# Altium footprint library TH_Passive.PcbLib: 23 footprints (part 1 of 2)
Each footprint in its own frame and in the unit in brackets; x right, y up, seen from the top. Pads: shape width x height; smd on the part's side, far side on the other; paste and mask are expansions set on the pad; w line width, h text height; cw(c..) or ccw(c..) is an arc to the next point about the centre after c.
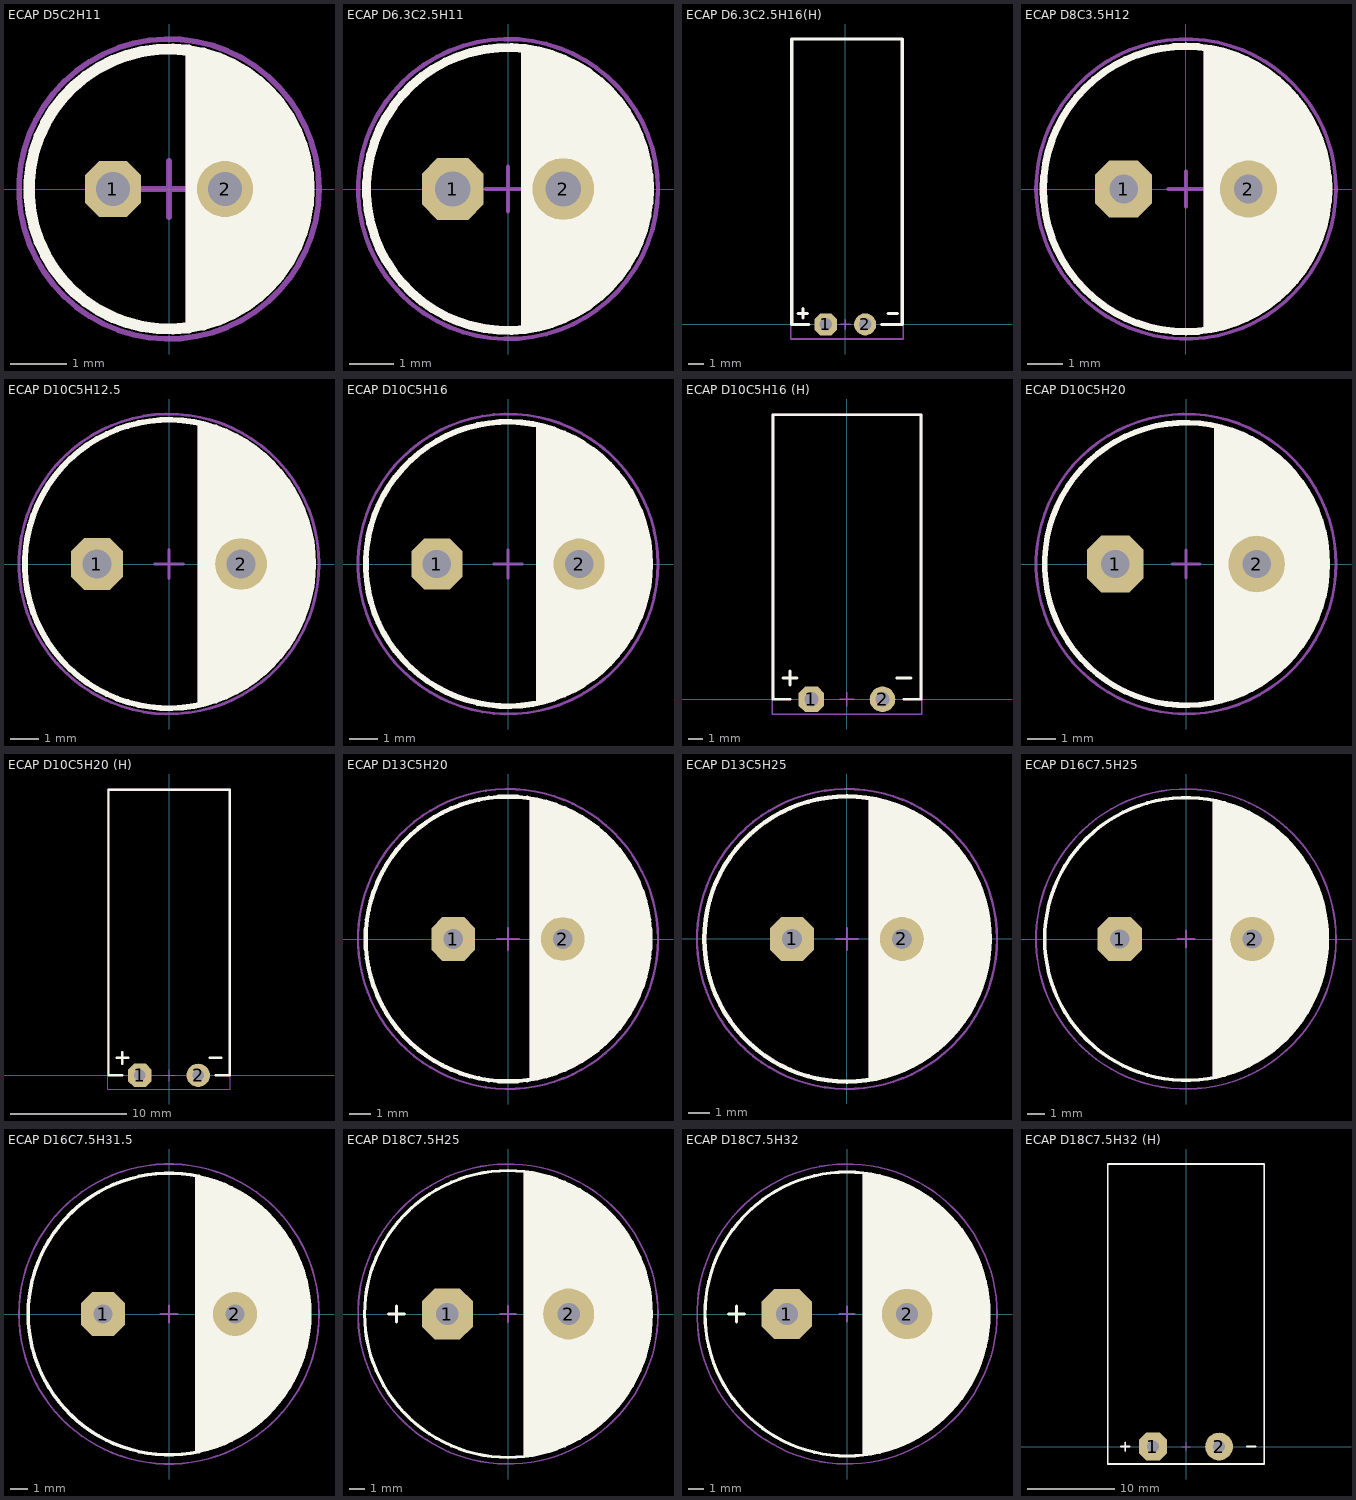
[diagram p0: the footprints below, top view; thin cyan lines are the x and y axes]

## ECAP D5C2H11 [mm]
height 11
pads (2):
  oct 1x1 hole 0.6: 1(-1,0)
  round 1 hole 0.6: 2(1,0)
Top Overlay:
  circle w0.2: c0,0 r2.5
  region: 0.3,-2.5 0.3,2.5 0.975,2.3 1.575,1.95 1.925,1.6 2.175,1.225 2.45,0.575 2.5,0 2.425,-0.625 2.2,-1.225 1.725,-1.8 1.2,-2.2 0.7,-2.425 0.325,-2.5
Top Assembly:
  circle w0.1: c0,0 r2.678
  region: 0.3,-2.5 0.3,2.5 0.975,2.3 1.575,1.95 1.925,1.6 2.175,1.225 2.45,0.575 2.5,0 2.425,-0.625 2.2,-1.225 1.725,-1.8 1.2,-2.2 0.7,-2.425 0.325,-2.5
  lines w0.1: -0.5,0 0.5,0 ; 0,-0.5 0,0.5
3D body "User Library-CapAluRadial_D50H110.STEP": height 13.5, standoff -3, extent -2.75,-2.75 2.75,2.75

## ECAP D6.3C2.5H11 [mm]
height 11
pads (2):
  oct 1.4x1.4 hole 0.8: 1(-1.25,0)
  round 1.4 hole 0.8: 2(1.25,0)
Top Overlay:
  circle w0.2: c0,0 r3.2
  region: 0.3,-3.2 0.3,3.2 1.025,3.05 1.825,2.65 2.45,2.075 2.825,1.5 3.1,0.75 3.2,0 3.125,-0.65 2.925,-1.325 2.5,-2 1.975,-2.525 1.325,-2.9 0.675,-3.125
Top Assembly:
  circle w0.1: c0,0 r3.392
  region: 0.3,-3.2 0.3,3.2 1.025,3.05 1.825,2.65 2.45,2.075 2.825,1.5 3.1,0.75 3.2,0 3.125,-0.65 2.925,-1.325 2.5,-2 1.975,-2.525 1.325,-2.9 0.675,-3.125
  lines w0.1: -0.5,0 0.5,0 ; 0,-0.5 0,0.5
3D body "User Library-CapAluRadial_D63H110.STEP": height 12.5, standoff -3, extent -3.4,-3.399 3.4,3.399

## ECAP D6.3C2.5H16(H) [mm]
height 16
pads (2):
  oct 1.4x1.4 hole 0.8: 1(-1.25,0)
  round 1.4 hole 0.8: 2(1.25,0)
Top Overlay:
  lines w0.2: -3,0.7 -2.4,0.7 ; -2.7,0.4 -2.7,1 ; -2.3,0 -3.4,0 -3.4,18.1 3.6,18.1 3.6,0 2.3,0 ; 2.7,0.7 3.3,0.7
Top Assembly:
  lines w0.1: -3,0.7 -2.4,0.7 ; -2.7,0.4 -2.7,1 ; -0.3,0 0.3,0 ; 0,-0.3 0,0.3 ; -3.462,-0.925 -3.462,18.1 3.661,18.1 3.661,-0.925 -3.462,-0.925
3D body "D63H150.STEP": height 6.8, standoff -1.6, extent -3.3,-0.334 3.5,18.1

## ECAP D8C3.5H12 [mm]
height 12
pads (2):
  oct 1.6x1.6 hole 0.8: 1(-1.75,0)
  round 1.6 hole 0.8: 2(1.75,0)
Top Overlay:
  circle w0.2: c0,0 r4
  region: 0.5,-4 0.5,4 1.3,3.8 2.05,3.45 2.625,3 3.125,2.5 3.575,1.775 3.85,1.1 4,0.325 3.975,-0.425 3.85,-1.125 3.55,-1.85 3.2,-2.4 2.7,-2.95 2.125,-3.375 1.225,-3.8
Top Assembly:
  circle w0.1: c0,0 r4.204
  region: 0.5,-4 0.5,4 1.3,3.8 2.05,3.45 2.625,3 3.125,2.5 3.575,1.775 3.85,1.1 4,0.325 3.975,-0.425 3.85,-1.125 3.55,-1.85 3.2,-2.4 2.7,-2.95 2.125,-3.375 1.225,-3.8
  lines w0.1: -0.5,0 0.5,0 ; 0,-0.5 0,0.5
3D body "User Library-CapAluRadial_D80H115.STEP": height 13, standoff -3, extent -4.25,-4.247 4.25,4.247

## ECAP D10C5H12.5 [mm]
height 12.5
pads (2):
  oct 1.8x1.8 hole 1: 1(-2.5,0)
  round 1.8 hole 1: 2(2.5,0)
Top Overlay:
  circle w0.2: c0,0 r5
  region: 1,-4.9 1,4.9 2,4.6 3,4 3.7,3.4 4.529,2.157 4.752,1.667 5,0.3 4.853,-1.313 4.691,-1.882 4.2,-2.7 3.8,-3.2 3.4,-3.7 3,-4 2.4,-4.4 1.7,-4.7 1.1,-4.9
Top Assembly:
  circle w0.1: c0,0 r5.202
  region: 1,-4.9 1,4.9 2,4.6 3,4 3.7,3.4 4.529,2.157 4.752,1.667 5,0.3 4.853,-1.313 4.691,-1.882 4.2,-2.7 3.8,-3.2 3.4,-3.7 3,-4 2.4,-4.4 1.7,-4.7 1.1,-4.9
  lines w0.1: -0.5,0 0.5,0 ; 0,-0.5 0,0.5
3D body "User Library-CapAluRadial_D100H125.STEP": height 14.05, standoff -2.95, extent -5.25,-5.249 5.25,5.249

## ECAP D10C5H16 [mm]
height 16
pads (2):
  oct 1.8x1.8 hole 1: 1(-2.5,0)
  round 1.8 hole 1: 2(2.5,0)
Top Overlay:
  circle w0.2: c0,0 r5
  region: 1,-4.9 1,4.9 1.6,4.75 2.175,4.5 2.8,4.15 3.25,3.8 3.875,3.175 4.275,2.6 4.775,1.575 4.975,0.65 5,-0.45 4.875,-1.175 4.675,-1.825 4.275,-2.625 3.775,-3.275 3.075,-3.95 2.35,-4.4 1.275,-4.85 1.025,-4.9
Top Assembly:
  circle w0.1: c0,0 r5.274
  region: 1,-4.9 1,4.9 1.6,4.75 2.175,4.5 2.8,4.15 3.25,3.8 3.875,3.175 4.275,2.6 4.775,1.575 4.975,0.65 5,-0.45 4.875,-1.175 4.675,-1.825 4.275,-2.625 3.775,-3.275 3.075,-3.95 2.35,-4.4 1.275,-4.85 1.025,-4.9
  lines w0.1: -0.5,0 0.5,0 ; 0,-0.5 0,0.5
3D body "User Library-CapAluRadial_D100H160.STEP": height 17.55, standoff -2.95, extent -5.25,-5.249 5.25,5.249

## ECAP D10C5H16 (H) [mm]
height 16
pads (2):
  oct 1.8x1.8 hole 1: 1(-2.5,0)
  round 1.8 hole 1: 2(2.5,0)
Top Overlay:
  lines w0.2: -4.5,1.5 -3.5,1.5 ; -4,0 -5.2,0 -5.2,20 5.2,20 5.2,0 4,0 ; -4,1 -4,2 ; 3.5,1.5 4.5,1.5
Top Assembly:
  lines w0.1: -4.304,1.499 -3.704,1.499 ; -4.004,1.199 -4.004,1.799 ; -0.5,0 0.5,0 ; 0,-0.5 0,0.5 ; -5.238,-1.032 -5.238,20.055 5.246,20.055 5.246,-1.032 -5.238,-1.032
3D body "User Library-CapAluRadial_D100H160.STEP": height 10.55, standoff 0.05, extent -5.25,-0.5 5.25,20

## ECAP D10C5H20 [mm]
height 20
pads (2):
  oct 2x2 hole 1: 1(-2.5,0)
  round 2 hole 1: 2(2.5,0)
Top Overlay:
  circle w0.2: c0,0 r5
  region: 1,-4.89 1,4.887 1.775,4.7 2.425,4.4 3,4 3.55,3.525 4.1,2.875 4.55,2.125 4.725,1.625 4.925,0.975 4.975,0.5 5,0 4.975,-0.5 4.825,-1.375 4.475,-2.25 4.2,-2.725 3.675,-3.425 3.2,-3.85 2.55,-4.275 1.875,-4.625 1.4,-4.8
Top Assembly:
  circle w0.1: c0,0 r5.308
  region: 1,-4.89 1,4.887 1.775,4.7 2.425,4.4 3,4 3.55,3.525 4.1,2.875 4.55,2.125 4.725,1.625 4.925,0.975 4.975,0.5 5,0 4.975,-0.5 4.825,-1.375 4.475,-2.25 4.2,-2.725 3.675,-3.425 3.2,-3.85 2.55,-4.275 1.875,-4.625 1.4,-4.8
  lines w0.1: -0.5,0 0.5,0 ; 0,-0.5 0,0.5
3D body "User Library-CapAluRadial_D100H200.STEP": height 22, standoff -3, extent -5.25,-5.249 5.25,5.249

## ECAP D10C5H20 (H) [mm]
height 20
pads (2):
  oct 2x2 hole 1: 1(-2.5,0)
  round 2 hole 1: 2(2.5,0)
Top Overlay:
  lines w0.2: -4.5,1.5 -3.5,1.5 ; -4,0 -5.2,0 -5.2,24.5 5.2,24.5 5.2,0 4,0 ; -4,1 -4,2 ; 3.5,1.5 4.5,1.5
Top Assembly:
  lines w0.1: -4.326,1.5 -3.726,1.5 ; -4.026,1.2 -4.026,1.8 ; -0.5,0 0.5,0 ; 0,-0.5 0,0.5 ; -5.253,-1.17 5.244,-1.17 5.244,24.558 -5.253,24.558 -5.253,-1.17
3D body "User Library-CapAluRadial_D100H200.STEP": height 10.75, standoff 0.25, extent -5.25,-0.5 5.25,24.5

## ECAP D13C5H20 [mm]
height 20
pads (2):
  oct 2x2 hole 0.9: 1(-2.5,0)
  round 2 hole 0.9: 2(2.5,0)
Top Overlay:
  circle w0.2: c0,0 r6.5
  region: 1,-6.4 1,6.4 1.8,6.275 2.55,5.975 3.45,5.525 4.275,4.9 4.925,4.25 5.675,3.2 6.075,2.3 6.35,1.475 6.5,0.25 6.425,-0.975 6.1,-2.3 5.75,-3.075 5.3,-3.75 4.9,-4.25 4.425,-4.75 3.9,-5.175 3.275,-5.6 2.675,-5.9 1.975,-6.2 1.4,-6.325
Top Assembly:
  circle w0.1: c0,0 r6.847
  region: 1,-6.4 1,6.4 1.8,6.275 2.55,5.975 3.45,5.525 4.275,4.9 4.925,4.25 5.675,3.2 6.075,2.3 6.35,1.475 6.5,0.25 6.425,-0.975 6.1,-2.3 5.75,-3.075 5.3,-3.75 4.9,-4.25 4.425,-4.75 3.9,-5.175 3.275,-5.6 2.675,-5.9 1.975,-6.2 1.4,-6.325
  lines w0.1: -0.5,0 0.5,0 ; 0,-0.5 0,0.5
3D body "User Library-Cap-EL(13x25-5).STEP": height 25, standoff -3.3, extent -6.5,-6.499 6.502,6.499

## ECAP D13C5H25 [mm]
height 25
pads (2):
  oct 2x2 hole 0.9: 1(-2.5,0)
  round 2 hole 0.9: 2(2.5,0)
Top Overlay:
  circle w0.2: c0,0 r6.5
  region: 1,-6.4 1,6.4 2.15,6.15 3.3,5.625 4.3,4.9 5.05,4.125 5.85,2.85 6.175,2.025 6.525,0.525 6.375,-1.325 5.95,-2.65 5.375,-3.625 4.625,-4.575 3.875,-5.2 3.175,-5.65 2.425,-6.025 1.5,-6.325 1.025,-6.4
Top Assembly:
  circle w0.1: c0,0 r6.831
  region: 1,-6.4 1,6.4 2.15,6.15 3.3,5.625 4.3,4.9 5.05,4.125 5.85,2.85 6.175,2.025 6.525,0.525 6.375,-1.325 5.95,-2.65 5.375,-3.625 4.625,-4.575 3.875,-5.2 3.175,-5.65 2.425,-6.025 1.5,-6.325 1.025,-6.4
  lines w0.1: -0.5,0 0.5,0 ; 0,-0.5 0,0.5
3D body "User Library-Cap-EL(13x25-5).STEP": height 25, standoff -3.3, extent -6.5,-6.499 6.502,6.499

## ECAP D16C7.5H25 [mm]
height 25
pads (2):
  oct 2.5x2.5 hole 1.1: 1(-3.75,0)
  round 2.5 hole 1.1: 2(3.75,0)
Top Overlay:
  circle w0.2: c0,0 r8
  region: 1.5,7.85 2.1,7.75 2.85,7.5 4.175,6.825 5.375,5.95 6.2,5.05 7.075,3.8 7.525,2.75 7.875,1.425 8,0 7.875,-1.375 7.725,-2.25 7.075,-3.75 6.65,-4.45 6.025,-5.25 5.475,-5.85 4.7,-6.475 3.975,-6.95 3.175,-7.35 2.3,-7.675 1.5,-7.85
Top Assembly:
  circle w0.1: c0,0 r8.488
  region: 1.5,7.85 2.1,7.75 2.85,7.5 4.175,6.825 5.375,5.95 6.2,5.05 7.075,3.8 7.525,2.75 7.875,1.425 8,0 7.875,-1.375 7.725,-2.25 7.075,-3.75 6.65,-4.45 6.025,-5.25 5.475,-5.85 4.7,-6.475 3.975,-6.95 3.175,-7.35 2.3,-7.675 1.5,-7.85
  lines w0.1: -0.5,0 0.5,0 ; 0,-0.5 0,0.5
3D body "User Library-CapAluRadial_D160H250.STEP": height 27, standoff -3, extent -8.25,-8.249 8.25,8.249

## ECAP D16C7.5H31.5 [mm]
height 31.5
pads (2):
  oct 2.5x2.5 hole 1.1: 1(-3.75,0)
  round 2.5 hole 1.1: 2(3.75,0)
Top Overlay:
  circle w0.2: c0,0 r8
  region: 1.5,7.85 2.1,7.75 2.85,7.5 4.175,6.825 5.375,5.95 6.2,5.05 7.075,3.8 7.525,2.75 7.875,1.425 8,0 7.875,-1.375 7.725,-2.25 7.075,-3.75 6.65,-4.45 6.025,-5.25 5.475,-5.85 4.7,-6.475 3.975,-6.95 3.175,-7.35 2.3,-7.675 1.5,-7.85
Top Assembly:
  circle w0.1: c0,0 r8.523
  region: 1.5,7.85 2.1,7.75 2.85,7.5 4.175,6.825 5.375,5.95 6.2,5.05 7.075,3.8 7.525,2.75 7.875,1.425 8,0 7.875,-1.375 7.725,-2.25 7.075,-3.75 6.65,-4.45 6.025,-5.25 5.475,-5.85 4.7,-6.475 3.975,-6.95 3.175,-7.35 2.3,-7.675 1.5,-7.85
  lines w0.1: -0.5,0 0.5,0 ; 0,-0.5 0,0.5
3D body "User Library-CapAluRadial_D160H315.STEP": height 33.5, standoff -3, extent -8.25,-8.25 8.25,8.249

## ECAP D18C7.5H25 [mm]
height 40
pads (2):
  oct 3.2x3.2 hole 1.4: 1(-3.81,0)
  round 3.2 hole 1.4: 2(3.81,0)
Top Overlay:
  circle w0.2: c0,0 r9
  region: 1,8.9 1.3,8.9 2.125,8.75 3.575,8.3 4.625,7.725 5.975,6.725 6.675,6.05 7.3,5.25 7.9,4.35 8.425,3.2 8.875,1.575 9,0.475 8.95,-0.85 8.8,-1.9 8.45,-3.15 7.975,-4.175 7.375,-5.125 6.65,-6.05 5.775,-6.9 5,-7.525 3.725,-8.175 2.35,-8.7 1.25,-8.925 1,-8.925
  lines w0.2: -7.5,0 -6.5,0 ; -7,-0.5 -7,0.5
Top Assembly:
  circle w0.1: c0,0 r9.415
  region: 1,8.9 1.3,8.9 2.125,8.75 3.575,8.3 4.625,7.725 5.975,6.725 6.675,6.05 7.3,5.25 7.9,4.35 8.425,3.2 8.875,1.575 9,0.475 8.95,-0.85 8.8,-1.9 8.45,-3.15 7.975,-4.175 7.375,-5.125 6.65,-6.05 5.775,-6.9 5,-7.525 3.725,-8.175 2.35,-8.7 1.25,-8.925 1,-8.925
  lines w0.1: -7.5,0 -6.5,0 ; -7,-0.5 -7,0.5 ; -0.5,0 0.5,0 ; 0,-0.5 0,0.5
3D body "User Library-CapAluRadial_D180H250P75.STEP": height 25.1, standoff -2.9, extent -9,-8.999 9.001,8.999

## ECAP D18C7.5H32 [mm]
height 40
pads (2):
  oct 3.2x3.2 hole 1.4: 1(-3.81,0)
  round 3.2 hole 1.4: 2(3.81,0)
Top Overlay:
  circle w0.2: c0,0 r9
  region: 1,8.9 1.3,8.9 2.125,8.75 3.575,8.3 4.625,7.725 5.975,6.725 6.675,6.05 7.3,5.25 7.9,4.35 8.425,3.2 8.875,1.575 9,0.475 8.95,-0.85 8.8,-1.9 8.45,-3.15 7.975,-4.175 7.375,-5.125 6.65,-6.05 5.775,-6.9 5,-7.525 3.725,-8.175 2.35,-8.7 1.25,-8.925 1,-8.925
  lines w0.2: -7.5,0 -6.5,0 ; -7,-0.5 -7,0.5
Top Assembly:
  circle w0.1: c0,0 r9.506
  region: 1,8.9 1.3,8.9 2.125,8.75 3.575,8.3 4.625,7.725 5.975,6.725 6.675,6.05 7.3,5.25 7.9,4.35 8.425,3.2 8.875,1.575 9,0.475 8.95,-0.85 8.8,-1.9 8.45,-3.15 7.975,-4.175 7.375,-5.125 6.65,-6.05 5.775,-6.9 5,-7.525 3.725,-8.175 2.35,-8.7 1.25,-8.925 1,-8.925
  lines w0.1: -7.5,0 -6.5,0 ; -7,-0.5 -7,0.5 ; -0.5,0 0.5,0 ; 0,-0.5 0,0.5
3D body "User Library-CapAluRadial_D180H315P75.STEP": height 31.5, standoff -3, extent -9,-9 9.001,9

## ECAP D18C7.5H32 (H) [mm]
height 40
pads (2):
  oct 3.2x3.2 hole 1.4: 1(-3.81,0)
  round 3.2 hole 1.4: 2(3.81,0)
Top Overlay:
  lines w0.2: -7.5,0 -6.5,0 ; -7,-0.5 -7,0.5 ; 7,0 8,0 ; -9,-2 9,-2 9,32.5 -9,32.5 -9,-2
Top Assembly:
  lines w0.1: -7.5,0 -6.5,0 ; -7,-0.5 -7,0.5 ; -0.5,0 0.5,0 ; 0,-0.5 0,0.5 ; -9,-2 -9,32.5 9,32.5 9,-2 -9,-2
3D body "User Library-CapAluRadial_D180H315P75.STEP": height 18.1, standoff 0.1, extent -9.001,-2 9.001,32.501